# EAGLE library part 6-PAD (library Pad_MORISHITA)
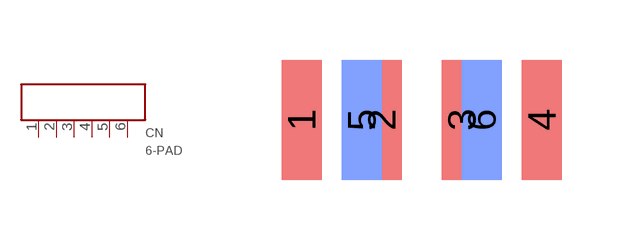
[diagram p0: symbol with the pads of PAD; footprint PAD]

Designator prefix CN

## 6-PAD  [PAD]
1  P$1
2  P$2
3  P$3
4  P$4
5  P$5
6  P$6

## Footprint PAD (pad centres in mm)
smd 1 x 3: 1 -3,0; 2 -1,0; 3 1,0; 4 3,0
smd 1 x 3 bottom: 5 -1.5,0; 6 1.5,0